# Altium schematic symbol library WIRELESS_UART.SchLib: 25 symbols
Pins are listed as number, name and electrical type; pins without a type are passive.

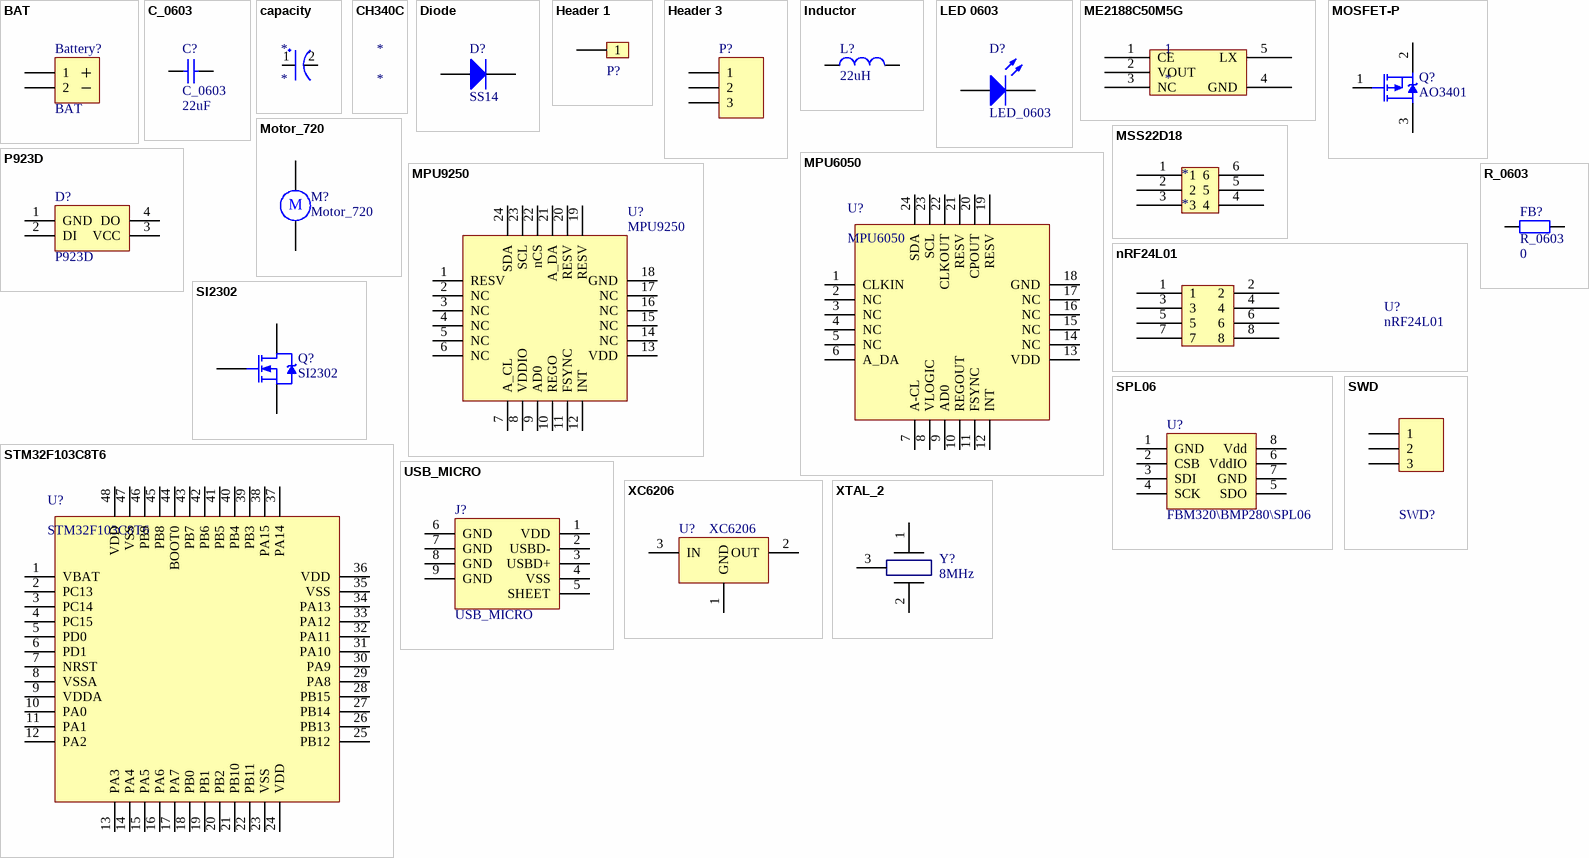
[diagram p0: symbols BAT to XTAL_2]

## BAT
designator Battery?
Header, 2-Pin; Publisher: mazhongwei; Published: 8-August-2017; PackageReference: HDR1X2
footprint BAT
pins: 1, 2

## C_0603
designator C?  value 22uF
Published: 8-Jun-2000; LatestRevisionDate: 17-Jul-2002; LatestRevisionNote: Re-released for DXP Platform.; PackageReference: RAD-0.3; Publisher: Altium Limited; PackageDescription: Radial Cap, Thru-Hole; 2 Leads; 0.3 in Pin Spacing
footprint C_0603
pins: 1, 2

## capacity
designator *
footprint capacity
pins: 1, 2

## CH340C
designator *

## Diode
designator D?, comment SS14
Default Diode; Published: 8-August-2017; PackageReference: DO214AC; Publisher: mazhongwei
footprint 1N4007
footprint SOD-123
pins: 1 A, 2 K

## Header 1
designator P?  (value not drawn)
LatestRevisionDate: 17-Jul-2002; LatestRevisionNote: Re-released for DXP Platform.; Publisher: Altium Limited
footprint HEADER1
pins: 1

## Header 3
designator P?
Header, 3-Pin; LatestRevisionDate: 17-Jul-2002; LatestRevisionNote: Re-released for DXP Platform.; Publisher: Altium Limited
footprint HEADER1X3
pins: 1, 2, 3

## Inductor
designator L?  value 22uH  (hidden comment: Inductor)
电感; Code_IEC: 1005; Published: 8-Jun-2000; LatestRevisionDate: 17-Jul-2002; LatestRevisionNote: Re-released for DXP Platform.; PackageReference: 0402-A; Publisher: Altium Limited; Code_JEITA: 0402
footprint 22uH
pins: 1, 2

## LED 0603
designator D?, comment LED_0603
发光二极管; Published: 8-Jun-2000; LatestRevisionDate: 08-Jul-2005; LatestRevisionNote: Mech Layer 1 removed.; PackageReference: LED-0; Publisher: Altium Limited; PackageDescription: LED; 2 Leads
footprint LED-0603
pins: 1, 2

## ME2188C50M5G
designator 1
footprint ME2188C50M5G
pins: 1 CE, 2 VOUT, 3 NC, 4 GND, 5 LX

## MOSFET-P
designator Q?, comment AO3401
MOS管_P沟道; PackageDocument: 1995/1996; Published: 8-Jun-2000; LatestRevisionDate: 17-Jul-2002; LatestRevisionNote: Re-released for DXP Platform.; PackageReference: E3; Publisher: Altium Limited
footprint SOT-23(SOT-23-3)
pins: 1 G, 2 S, 3 D

## Motor_720
designator M?
Motor, General Kind; Published: 8-August-2017; PackageReference: RB5-10.5; Publisher: mazhongwei
footprint MOTOR
pins: 1, 2
text: M

## MPU6050
designator U?
footprint QFN-24_4x4x05P
pins: 1 CLKIN, 2 NC, 3 NC, 4 NC, 5 NC, 6 A_DA, 7 A-CL, 8 VLOGIC, 9 AD0, 10 REGOUT, 11 FSYNC, 12 INT, 13 VDD, 14 NC, 15 NC, 16 NC, 17 NC, 18 GND, 19 RESV, 20 CPOUT, 21 RESV, 22 CLKOUT, 23 SCL, 24 SDA

## MPU9250
designator U?
footprint QFN-24_4x4x05P
pins: 1 RESV, 2 NC, 3 NC, 4 NC, 5 NC, 6 NC, 7 A_CL, 8 VDDIO, 9 AD0, 10 REGO, 11 FSYNC, 12 INT, 13 VDD, 14 NC, 15 NC, 16 NC, 17 NC, 18 GND, 19 RESV, 20 RESV, 21 A_DA, 22 nCS, 23 SCL, 24 SDA

## MSS22D18
designator *
footprint MSS22D18
pins: 1, 2, 3, 4, 5, 6

## nRF24L01
designator U?
footprint NRF24L01
pins: 1, 2, 3, 4, 5, 6, 7, 8

## P923D
designator D?
Publisher: mazhongwei; Published: 8-August-2017; PackageReference: RGB_LED_5050
footprint RGB_LED_5050
pins: 1 GND, 2 DI, 3 VCC, 4 DO

## R_0603
designator FB?  value 0
Published: 8-Jun-2000; LatestRevisionDate: 17-Jul-2002; LatestRevisionNote: Re-released for DXP Platform.; PackageReference: AXIAL-0.4; Publisher: Altium Limited; PackageDescription: Axial Device, Thru-Hole; 2 Leads; 0.4 in Pin Spacing
footprint R_0603
pins: 1, 2

## SI2302
designator Q?
N-Channel Power MOSFET; Published: 8-August-2017; PackageReference: SOT23-3; Publisher: mazhongwei
footprint SOT-23(SOT-23-3)
footprint Model Name (Footprint not found)
pins: 1 G, 2 S, 3 D

## SPL06
designator U?, comment FBM320\BMP280\SPL06
气压计; Published: 8-August-2017; Publisher: mazhongwei; PackageReference: LGA-2_5X2MM
footprint LGA-2_5X2MM
pins: 1 GND, 2 CSB, 3 SDI, 4 SCK, 5 SDO, 6 VddIO, 7 GND, 8 Vdd

## STM32F103C8T6
designator U?
footprint LQFP-48_7x7x05P
pins: 1 VBAT, 2 PC13, 3 PC14, 4 PC15, 5 PD0, 6 PD1, 7 NRST, 8 VSSA, 9 VDDA, 10 PA0, 11 PA1, 12 PA2, 13 PA3, 14 PA4, 15 PA5, 16 PA6, 17 PA7, 18 PB0, 19 PB1, 20 PB2, 21 PB10, 22 PB11, 23 VSS, 24 VDD, 25 PB12, 26 PB13, 27 PB14, 28 PB15, 29 PA8, 30 PA9, 31 PA10, 32 PA11, 33 PA12, 34 PA13, 35 VSS, 36 VDD, 37 PA14, 38 PA15, 39 PB3, 40 PB4, 41 PB5, 42 PB6, 43 PB7, 44 BOOT0, 45 PB8, 46 PB9, 47 VSS, 48 VDD

## SWD
designator SWD?  (value not drawn)
SWD下载; LatestRevisionDate: 17-Jul-2002; LatestRevisionNote: Re-released for DXP Platform.; Publisher: Altium Limited
footprint SH1_0X5P_WT
pins: 1, 2, 3

## USB_MICRO
designator J?
MicroUSB接口; PackageReference: MINI_USB_FEMALE; Publisher: mazhongwei; Published: 8-August-2017
footprint MINI_USB_FEMALE
pins: 1 VDD, 2 USBD-, 3 USBD+, 4 VSS, 5 SHEET, 6 GND, 7 GND, 8 GND, 9 GND

## XC6206
designator U?
PackageReference: SOT23-3; Published: 12-August-2017; Publisher: mazhongwei
footprint SOT-23(SOT-23-3)
pins: 1 GND, 2 OUT, 3 IN

## XTAL_2
designator Y?, comment value 8MHz  (hidden comment: XTAL)
Publisher: mazhongwei; Published: 8-August-2017; PackageReference: SMD-cstse800G52-r0
footprint SMD-cstse800G52-r0
pins: 1, 2, 3